# Altium schematic symbol library Оптопары.SchLib: 9 symbols
Pins are listed as number, name and electrical type; pins without a type are passive.

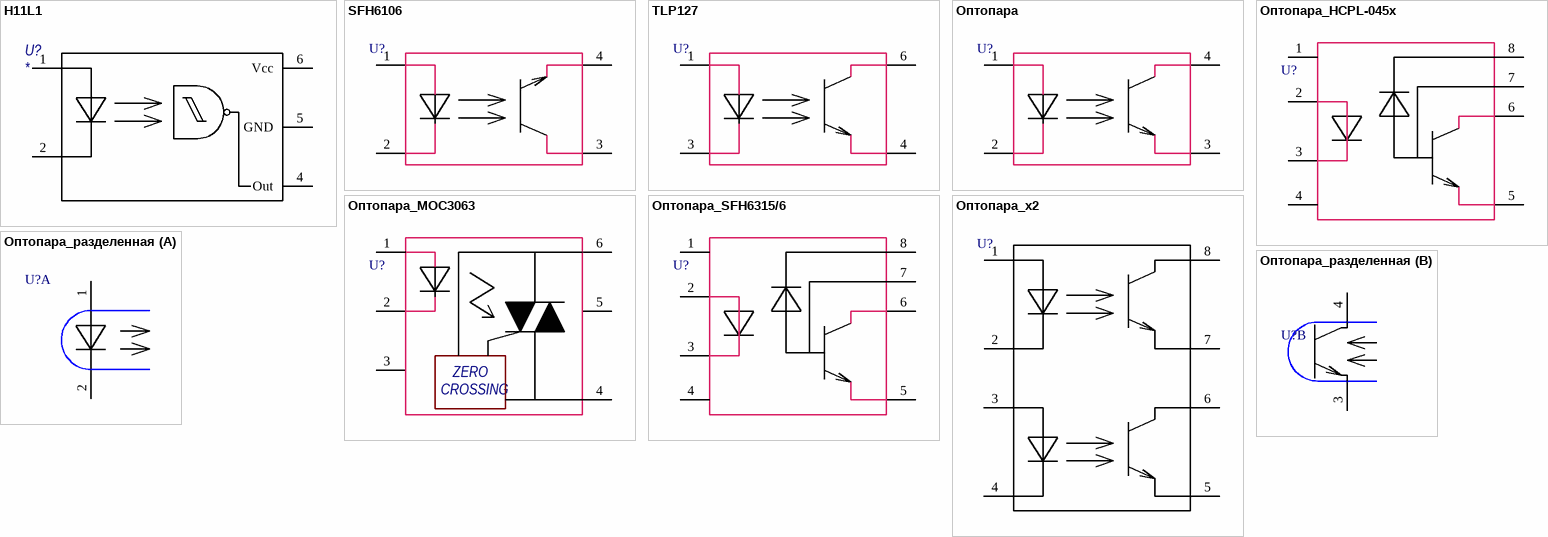
[diagram p0: symbols H11L1 to Оптопара_разделенная]

## H11L1
designator U?
pins: 1 +, 2 -, 4 Out, 5 GND, 6 Vcc

## SFH6106
designator U?
pins: 1 +, 2 -, 3 E, 4 C

## TLP127
designator U?
pins: 1 +, 3 -, 4 E, 6 C

## Оптопара
designator U?
pins: 1 +, 2 -, 3 E, 4 C

## Оптопара_HCPL-045x
designator U?
pins: 1 NC, 2 A, 3 C, 4 NC, 5 E, 6 C, 7 B Vb, 8 Vcc

## Оптопара_MOC3063
designator U?
pins: 1 NC, 2 A, 3 C, 4 NC, 5 E, 6 C
text: ZERO; CROSSING

## Оптопара_SFH6315/6
designator U?
pins: 1 NC, 2 A, 3 C, 4 NC, 5 E, 6 C, 7 B Vb, 8 Vcc

## Оптопара_x2
designator U?
pins: 1 +, 2 -, 3 +, 4 -, 5 E, 6 C, 7 E, 8 C

## Оптопара_разделенная
designator U?
part A pins: 1 +, 2 -
part B pins: 3 E, 4 C